# Altium footprint library Composants_Projet_PCB_Full.PcbLib: 52 footprints (part 3 of 4)
Each footprint in its own frame and in the unit in brackets; x right, y up, seen from the top. Pads: shape width x height; smd on the part's side, far side on the other; paste and mask are expansions set on the pad; w line width, h text height; cw(c..) or ccw(c..) is an arc to the next point about the centre after c.
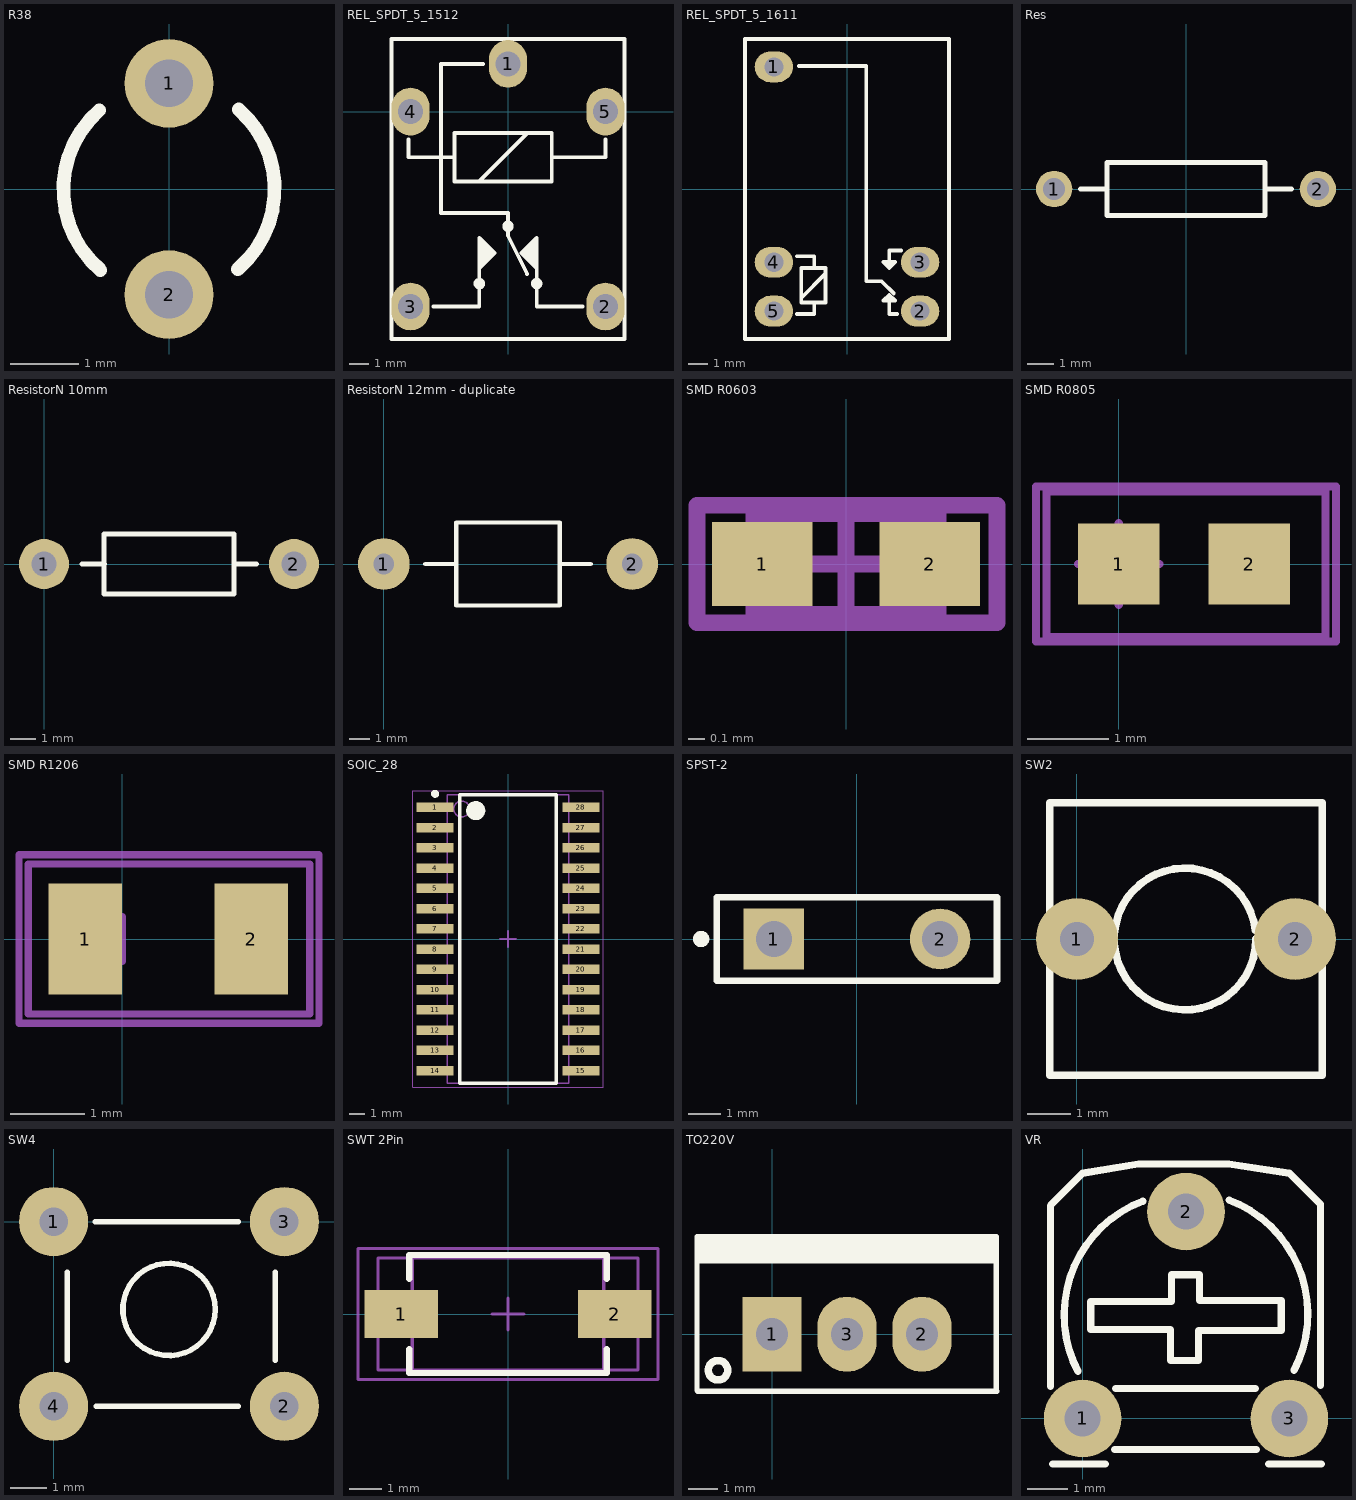
[diagram p2: the footprints below, top view; thin cyan lines are the x and y axes]

## R38 [mm]
pads (2):
  round 1.3 hole 0.7: 1(0,1.55) 2(0,-1.55)
Top Overlay:
  lines w0.2: -1.022,1.155 ccw(c0,-0.01) -1.006,-1.189 ; 1.006,-1.179 ccw(c0,0) 1.022,1.165

## REL_SPDT_5_1512 [mm]
pads (5):
  oval 2x2.5 hole 1.3: 1(0,2.5) 2(5.1,-10.2) 3(-5.1,-10.2) 4(-5.1,0) 5(5.1,0)
Top Overlay:
  circle w0.2: c0,-6 r0.2
  circle w0.2: c1.5,-9 r0.2
  circle w0.2: c-1.5,-9 r0.2
  region: 1.5,-6.6 1.5,-8.2 0.7,-7.4
  region: -1.5,-6.6 -1.5,-8.2 -0.7,-7.4
  lines w0.2: -5.2,-1.45 -5.2,-2.392 -2.794,-2.392 ; -3.9,-10.2 -1.5,-10.2 -1.5,-6.6 -0.7,-7.4 -1.5,-8.2 ; -1.524,-3.662 1.016,-1.122 ; -1.3,2.5 -3.5,2.5 -3.5,-5.3 0,-5.3 0,-6.5 1,-8.5 ; 1.5,-8.2 0.7,-7.4 1.5,-6.6 1.5,-10.2 3.9,-10.2 ; 5.1,-1.45 5.1,-2.392 2.286,-2.392 ; 2.286,-2.392 2.286,-1.122 -2.794,-1.122 -2.794,-3.662 2.286,-3.662 2.286,-2.392 ; -6.1,-11.9 -6.1,3.8 6.1,3.8 6.1,-11.9 -6.1,-11.9
3D body "User Library-G8QN-05-EX.step": height 14, standoff -3.4, extent -6,-11.8 6,3.7

## REL_SPDT_5_1611 [mm]
pads (5):
  oval 2x1.6 hole 1: 1(-3.8,6.35) 2(3.8,-6.35) 3(3.8,-3.81) 4(-3.8,-3.81) 5(-3.8,-6.35)
Top Overlay:
  lines w0.2: -2.6,-6.5 -1.7,-6.5 -1.7,-5.9 ; -2.6,-3.5 -1.7,-3.5 -1.7,-4.1 ; -2.5,6.4 1,6.4 1,-4.8 1.8,-4.8 2.435,-5.435 ; -2.379,-5.662 -1.109,-4.392 ; 2.6,-6.5 2.2,-6.5 2.2,-5.5 ; 2.8,-3.2 2.2,-3.2 2.2,-4.1 ; 2.2,-5.5 2.5,-5.8 1.9,-5.8 2.2,-5.5 ; 2.2,-4.1 1.9,-3.8 2.5,-3.8 2.2,-4.1 ; -5.3,-7.8 -5.3,7.8 5.3,7.8 5.3,-7.8 -5.3,-7.8 ; -2.379,-5.9 -1.109,-5.9 -1.109,-4.1 -2.379,-4.1 -2.379,-5.9
3D body "User Library-HK4100F.step": height 11.81, standoff -2.75, extent -5.2,-7.7 5.2,7.7

## Res [mm]
pads (2):
  round 1.4 hole 0.85: 1(-5.08,0) 2(5.08,0)
Top Overlay:
  lines w0.2: -4.064,0 -3.048,0 ; 3.048,0 4.064,0 ; -3.048,-1.016 -3.048,1.016 3.048,1.016 3.048,-1.016 -3.048,-1.016
3D body "User Library-Res40-Axial 0_25W-10K.STEP": height 2.41, standoff -2, extent -5.38,-1.1 5.38,1.3

## ResistorN 10mm [mm]
pads (2):
  round 2 hole 1: 1(0,0) 2(10,0)
Top Overlay:
  lines w0.2: 1.524,0 2.413,0 ; 2.4,-1.2 7.6,-1.2 ; 2.4,-1.143 2.4,1.143 ; 2.4,1.2 7.6,1.2 ; 7.6,-1.143 7.6,1.143 ; 7.62,0 8.509,0

## ResistorN 12mm - duplicate [mm]
pads (2):
  round 2.5 hole 1: 1(0,0) 2(12,0)
Top Overlay:
  lines w0.2: 2,0 3.5,0 ; 8.5,0 10,0 ; 3.5,-2 8.5,-2 8.5,2 3.5,2 3.5,-2

## SMD R0603 [mm]
pads (2):
  rect 0.6x0.5 smd: 1(-0.5,0) 2(0.5,0)
Mechanical 13:
  lines w0.1: -0.55,-0.3 0.55,-0.3 0.55,0.3 -0.55,0.3 -0.55,-0.3
Mechanical 15:
  lines w0.1: -0.3,0 0.3,0 ; 0,-0.3 0,0.3 ; -0.889,-0.35 0.9,-0.35 0.9,0.35 -0.889,0.35 -0.889,-0.35
3D body "SMD R0603.stp": height 0.45, standoff 0, extent -0.8,-0.4 0.8,0.4

## SMD R0805 [mm]
pads (2):
  rect 1x1 smd: 1(0,0) 2(1.6,0)
Mechanical 13:
  lines w0.1: -0.889,-0.9 -0.889,0.889 2.54,0.889 2.54,-0.9 -0.889,-0.9
Mechanical 15:
  lines w0.1: -0.5,0 0.5,0 ; 0,-0.5 0,0.5 ; -1.016,-0.95 -1.016,0.95 2.667,0.95 2.667,-0.95 -1.016,-0.95
3D body "SMD R0805.stp": height 0.5, standoff 0, extent -0.238,-0.625 1.762,0.625

## SMD R1206 [mm]
pads (2):
  rect 1x1.5 smd: 1(-0.5,0) 2(1.75,0)
Mechanical 13:
  lines w0.1: -1.27,-1.016 2.54,-1.016 2.54,1.016 -1.27,1.016 -1.27,-1.016
Mechanical 15:
  lines w0.1: 0,-0.3 0,0.3 ; -1.397,-1.143 2.667,-1.143 2.667,1.143 -1.397,1.143 -1.397,-1.143
3D body "SMD R1206.stp": height 0.6, standoff 0, extent -1.016,-0.8 2.184,0.8

## SOIC_28 [mm]
pads (28):
  rect 2.3x0.6 smd: 1(-4.575,8.255) 2(-4.575,6.985) 3(-4.575,5.715) 4(-4.575,4.445) 5(-4.575,3.175) 6(-4.575,1.905) 7(-4.575,0.635) 8(-4.575,-0.635) 9(-4.575,-1.905) 10(-4.575,-3.175) 11(-4.575,-4.445) 12(-4.575,-5.715) 13(-4.575,-6.985) 14(-4.575,-8.255) 15(4.575,-8.255) 16(4.575,-6.985) 17(4.575,-5.715) 18(4.575,-4.445) 19(4.575,-3.175) 20(4.575,-1.905) 21(4.575,-0.635) 22(4.575,0.635) 23(4.575,1.905) 24(4.575,3.175) 25(4.575,4.445) 26(4.575,5.715) 27(4.575,6.985) 28(4.575,8.255)
Top Overlay:
  circle w0.25: c-4.575,9.105 r0.125
  circle w0.6: c-2.025,8.05 r0.3
  lines w0.2: -3.025,-9.05 -3.025,9.05 3.025,9.05 3.025,-9.05 -3.025,-9.05
Mechanical 13:
  circle w0.1: c-2.9,8.15 r0.5
  lines w0.1: -3.8,-9.05 -3.8,9.05 3.8,9.05 3.8,-9.05 -3.8,-9.05
Mechanical 15:
  lines w0.05: -5.975,-9.3 -5.975,9.3 5.975,9.3 5.975,-9.3 -5.975,-9.3
  lines w0.1: -0.5,0 0.5,0 ; 0,-0.5 0,0.5
3D body "PIC-SOIC-28-300.STEP": height 3.17, standoff 0.58, extent -5.2,-9.05 5.4,9.05

## SPST-2 [mm]
pads (2):
  rect 1.85x1.85 hole 1.1: 1(-2.54,0)
  round 1.85 hole 1.1: 2(2.54,0)
Top Overlay:
  circle w0.25: c-4.761,-0.001 r0.125
  lines w0.2: -4.28,-1.27 -4.28,1.27 4.28,1.27 4.28,-1.27 -4.28,-1.27

## SW2 [mil]
pads (2):
  round 75 hole 31: 1(0,0) 2(200,0)
Top Overlay:
  lines w7: 163.64,8.26 ccw(c99.17,0) 164.17,0 ; -25,-125 225,-125 225,125 -25,125 -25,-125

## SW4 [mil]
pads (4):
  round 75 hole 31: 1(0,0) 2(250,-200) 3(250,0) 4(0,-200)
Top Overlay:
  circle w6: c125,-95 r50
  lines w6: 15,-150 15,-55 ; 45,0 200,0 ; 46,-200 200,-200 ; 240,-150 240,-55
  lines w7: 239,-215 240,-214
3D body "User Library-TS-1143-WP.STEP": height 169.29, standoff -137.8, extent -35.48,-232.95 290,22.95

## SWT 2Pin [mm]
pads (2):
  rect 2.3x1.5 smd: 1(-3.35,0) 2(3.35,0)
Top Overlay:
  lines w0.2: -3.1,-1.1 -3.1,-1.85 3.1,-1.85 3.1,-1.1 ; -3.1,1.1 -3.1,1.85 3.1,1.85 3.1,1.1
Mechanical 11:
  lines w0.1: -3,-1.75 3,-1.75 3,1.75 -3,1.75 -3,-1.75
Mechanical 13:
  lines w0.1: -4.075,-1.75 -4.075,1.75 4.075,1.75 4.075,-1.75 -4.075,-1.75
Mechanical 15:
  lines w0.1: -0.5,0 0.5,0 ; 0,-0.5 0,0.5 ; -4.7,-2.05 4.7,-2.05 4.7,2.05 -4.7,2.05 -4.7,-2.05
3D body "4341x10508x6.stp": height 5, standoff 0, extent -4,-1.75 4,1.75

## TO220V [mm]
pads (3):
  rect 2x2.54 hole 1.1: 1(0,0)
  oval 2x2.54 hole 1.1: 2(5.08,0) 3(2.54,0)
Top Overlay:
  circle w0.254: c-1.83,-1.219 r0.329
  rectangle: -2.515,2.388 7.62,3.302
  lines w0.178: 7.569,2.718 7.595,2.362 ; -2.54,-1.905 -2.515,-1.93 -1.93,-1.93 7.62,-1.93 7.595,-1.905 7.595,3.302 -2.54,3.302 -2.54,-1.905
3D body "SW3dPS-TO220AB.STEP": height 19.17, standoff -10.16, extent -3.022,-1.626 8.191,3.064

## VR [mil]
pads (3):
  round 75 hole 35: 1(0,0) 2(100,200) 3(200,0)
Top Overlay:
  lines w7: -31,31 -31,206 0,237 54,246 141.5,246 200,237 230,207 230,32 ; -29,-44 22,-44 ; -4.35,45.34 cw(c100,100) 58.1,210.1 ; 8,113 8,86 85,86 85,56 112,56 112,85 192,85 192,114 113,114 113,139 86,139 86,113 9,113 ; 31,-30 168,-30 ; 32,29 167,29 ; 141.9,211.1 cw(c100,101) 204.35,46.34 ; 180,-44 231,-44
3D body "SW3dPS-Trimpot Horizontal.STEP": height 165.35, standoff -220.47, extent -86.85,-30 306.85,371.57